# EAGLE library part I__74*96 (library ..SMD)
5-bit SHIFT REGISTER
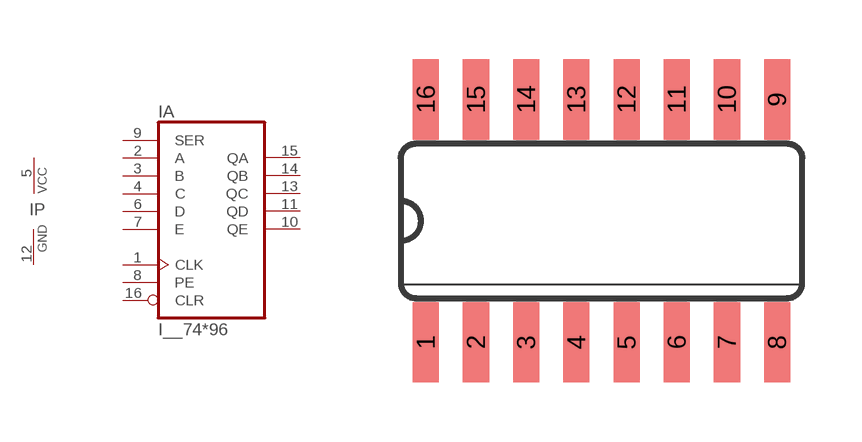
[diagram p192: symbol with the pads of SO16; footprint SO16]

Designator prefix I; gates A=7496 P=PWRN-2

## I__74LS96D  [SO16]
1  A:CLK  in
2  A:A  in
3  A:B  in
4  A:C  in
5  P:VCC  pwr
6  A:D  in
7  A:E  in
8  A:PE  in
9  A:SER  in
10  A:QE  out
11  A:QD  out
12  P:GND  pwr
13  A:QC  out
14  A:QB  out
15  A:QA  out
16  A:CLR  in

## Footprint SO16 (pad centres in mm)
Small Outline Package 16
smd 0.66 x 2.032: 1 -4.445,-3.073; 2 -3.175,-3.073; 3 -1.905,-3.073; 4 -0.635,-3.073; 5 0.635,-3.073; 6 1.905,-3.073; 7 3.175,-3.073; 8 4.445,-3.073; 9 4.445,3.073; 10 3.175,3.073; 11 1.905,3.073; 12 0.635,3.073; 13 -0.635,3.073; 14 -1.905,3.073; 15 -3.175,3.073; 16 -4.445,3.073